# EAGLE library part 87368-46 (library untitled)
RECEPTACAL
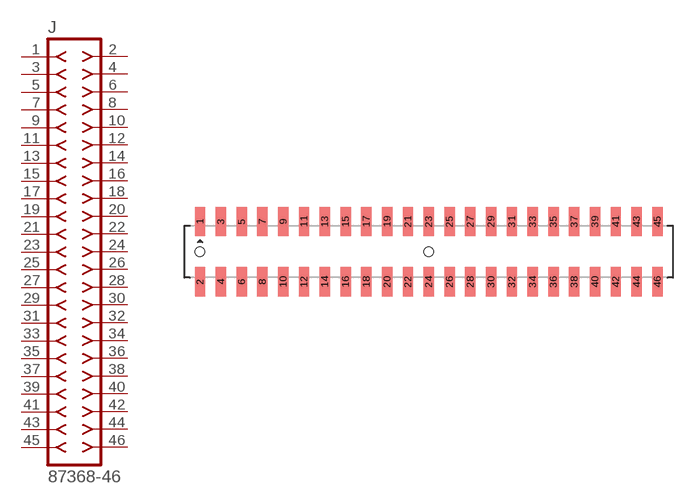
[diagram p202: symbol with the pads of 87368-46; footprint 87368-46]

Designator prefix J

## 87368-46  [87368-46]
1  1  pas
2  2  pas
3  3  pas
4  4  pas
5  5  pas
6  6  pas
7  7  pas
8  8  pas
9  9  pas
10  10  pas
11  11  pas
12  12  pas
13  13  pas
14  14  pas
15  15  pas
16  16  pas
17  17  pas
18  18  pas
19  19  pas
20  20  pas
21  21  pas
22  22  pas
23  23  pas
24  24  pas
25  25  pas
26  26  pas
27  27  pas
28  28  pas
29  29  pas
30  30  pas
31  31  pas
32  32  pas
33  33  pas
34  34  pas
35  35  pas
36  36  pas
37  37  pas
38  38  pas
39  39  pas
40  40  pas
41  41  pas
42  42  pas
43  43  pas
44  44  pas
45  45  pas
46  46  pas

## Footprint 87368-46 (pad centres in mm)
RECEPTACAL SMD Dual Row, Side Entry
smd 1 x 2.8: 1 -22,2.9; 2 -22,-2.9; 3 -20,2.9; 4 -20,-2.9; 5 -18,2.9; 6 -18,-2.9; 7 -16,2.9; 8 -16,-2.9; 9 -14,2.9; 10 -14,-2.9; 11 -12,2.9; 12 -12,-2.9; 13 -10,2.9; 14 -10,-2.9; 15 -8,2.9; 16 -8,-2.9; 17 -6,2.9; 18 -6,-2.9; 19 -4,2.9; 20 -4,-2.9; 21 -2,2.9; 22 -2,-2.9; 23 0,2.9; 24 0,-2.9; 25 2,2.9; 26 2,-2.9; 27 4,2.9; 28 4,-2.9; 29 6,2.9; 30 6,-2.9; 31 8,2.9; 32 8,-2.9; 33 10,2.9; 34 10,-2.9; 35 12,2.9; 36 12,-2.9; 37 14,2.9; 38 14,-2.9; 39 16,2.9; 40 16,-2.9; 41 18,2.9; 42 18,-2.9; 43 20,2.9; 44 20,-2.9; 45 22,2.9; 46 22,-2.9
hole 0.914 at -22,0
hole 0.914 at 0,0